# Altium footprint library SODFL470X240X90L140X175N.PcbLib: 1 footprints
Each footprint in its own frame and in the unit in brackets; x right, y up, seen from the top. Pads: shape width x height; smd on the part's side, far side on the other; paste and mask are expansions set on the pad; w line width, h text height; cw(c..) or ccw(c..) is an arc to the next point about the centre after c.
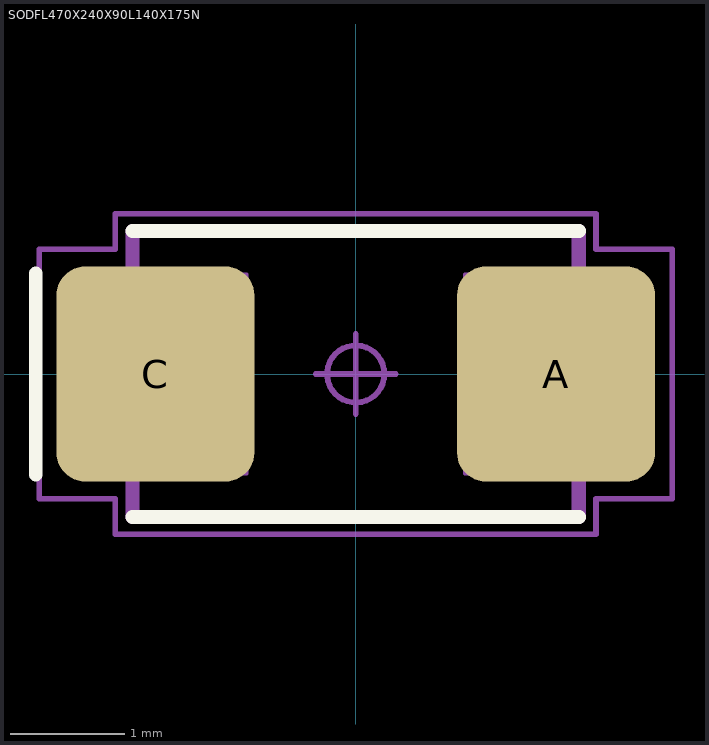
[diagram p0: the footprint, top view; thin cyan lines are the x and y axes]

## SODFL470X240X90L140X175N [mm] "Diode, Small Outline Diode Flat Lead (SODFL); 3.80 mm L X 2.40 mm W X 0.90 mm H body"
height 0.9
pads (2):
  rrect29% 1.73x1.88 smd: A(1.75,0) C(-1.75,0)
Top Overlay:
  lines w0.12: -2.795,-0.88 -2.795,0.88 ; -1.95,-1.25 1.95,-1.25 ; -1.95,1.25 1.95,1.25
Mechanical 3:
  lines w0.12: -1.95,-1.25 1.95,-1.25 1.95,1.25 -1.95,1.25 -1.95,-1.25
Mechanical 5:
  lines w0.025: -2.35,-0.875 -2.35,0.875 -0.95,0.875 -0.95,-0.875 -2.35,-0.875 ; -1.9,-1.2 1.9,-1.2 1.9,1.2 -1.9,1.2 -1.9,-1.2 ; 0.95,-0.875 2.35,-0.875 2.35,0.875 0.95,0.875 0.95,-0.875
Mechanical 7:
  circle w0.05: c0,0 r0.25
  lines w0.05: -0.35,0 0.35,0 ; 0,-0.35 0,0.35 ; -2.765,-1.09 -2.1,-1.09 -2.1,-1.4 2.1,-1.4 2.1,-1.09 2.765,-1.09 2.765,1.09 2.1,1.09 2.1,1.4 -2.1,1.4 -2.1,1.09 -2.765,1.09 -2.765,-1.09
Mechanical 9:
  text "'.Designator'" at -5.715,-0.254 h1
3D body "SODFL470X240X90L140X175.STEP": height 0.9, standoff 0, extent -2.35,-1.2 2.35,1.2
3D body: height 1.04, standoff 0, extent -2.765,-1.4 2.765,1.4